# Altium footprint library 1N5819HW-7-F.PcbLib: 3 footprints
Each footprint in its own frame and in the unit in brackets; x right, y up, seen from the top. Pads: shape width x height; smd on the part's side, far side on the other; paste and mask are expansions set on the pad; w line width, h text height; cw(c..) or ccw(c..) is an arc to the next point about the centre after c.
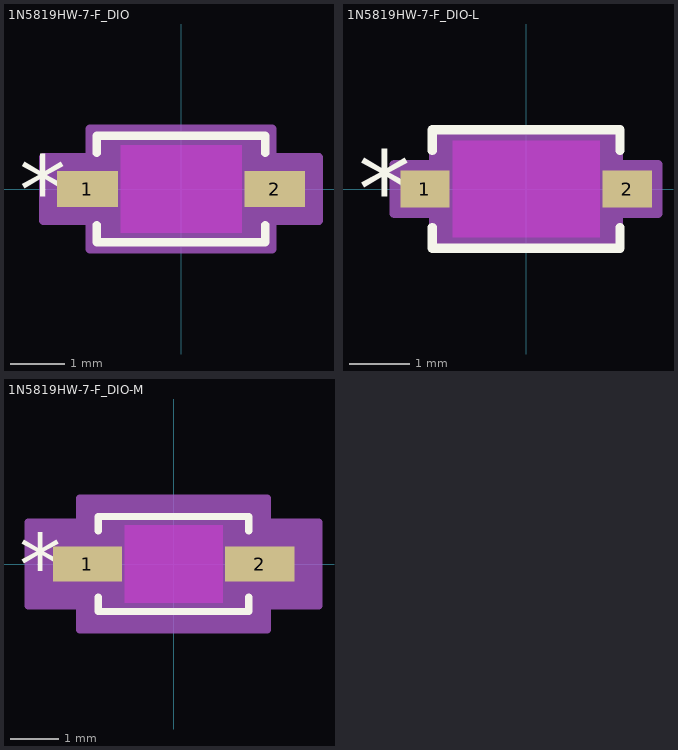
[diagram p0: the footprints below, top view; thin cyan lines are the x and y axes]

## 1N5819HW-7-F_DIO [mil]
pads (2):
  rect 44x26 smd paste+0 mask+0: 1(-67.79,0) 2(67.79,0)
Top Overlay:
  lines w6: -61,-26.1 -61,-38.5 61,-38.5 61,-26.1 ; -61,26.1 -61,38.5 61,38.5 61,26.1
  text "*" at -117.29,-25 h50
Keep-Out Layer:
  region: -43.79,-31.5 -43.79,31.5 43.79,31.5 43.79,-31.5
Mechanical 13:
  lines w1: -56,-16.75 -39.25,-33.5 ; -56,16.75 -39.25,33.5 ; -75.79,-12 -75.79,12 -56,12 -56,-12 -75.79,-12 ; -56,-33.5 56,-33.5 56,33.5 -56,33.5 -56,-33.5 ; 56,-12 56,12 75.79,12 75.79,-12 56,-12
  text "*" at -58.5,-25 h50
Mechanical 15:
  region: -66,-23 -99.79,-23 -99.79,23 -66,23 -66,43.5 66,43.5 66,23 99.79,23 99.79,-23 66,-23 66,-43.5 -66,-43.5
  lines w6: -99.79,-23 -99.79,23 -66,23 -66,43.5 66,43.5 66,23 99.79,23 99.79,-23 66,-23 66,-43.5 -66,-43.5 -66,-23 -99.79,-23
3D body "1N5819HW-7-F_DIO.step": height 53.11, standoff 0, extent -75.79,-33.5 75.79,33.5

## 1N5819HW-7-F_DIO-L [mil]
pads (2):
  rect 32x24 smd paste+0 mask+0: 1(-65.79,0) 2(65.79,0)
Top Overlay:
  lines w6: -61,-25.1 -61,-38.5 61,-38.5 61,-25.1 ; -61,25.1 -61,38.5 61,38.5 61,25.1
  text "*" at -109.29,-25 h50
Keep-Out Layer:
  region: -47.79,-31.5 -47.79,31.5 47.79,31.5 47.79,-31.5
Mechanical 13:
  lines w1: -56,-16.75 -39.25,-33.5 ; -56,16.75 -39.25,33.5 ; -75.79,-12 -75.79,12 -56,12 -56,-12 -75.79,-12 ; -56,-33.5 56,-33.5 56,33.5 -56,33.5 -56,-33.5 ; 56,-12 56,12 75.79,12 75.79,-12 56,-12
  text "*" at -58.5,-25 h50
Mechanical 15:
  region: -60,-16 -85.79,-16 -85.79,16 -60,16 -60,37.5 60,37.5 60,16 85.79,16 85.79,-16 60,-16 60,-37.5 -60,-37.5
  lines w6: -85.79,-16 -85.79,16 -60,16 -60,37.5 60,37.5 60,16 85.79,16 85.79,-16 60,-16 60,-37.5 -60,-37.5 -60,-16 -85.79,-16
3D body "1N5819HW-7-F_DIO.step": height 53.11, standoff 0, extent -75.79,-33.5 75.79,33.5

## 1N5819HW-7-F_DIO-M [mil]
pads (2):
  rect 56x28 smd paste+0 mask+0: 1(-69.79,0) 2(69.79,0)
Top Overlay:
  lines w6: -61,-27.1 -61,-38.5 61,-38.5 61,-27.1 ; -61,27.1 -61,38.5 61,38.5 61,27.1
  text "*" at -125.29,-25 h50
Keep-Out Layer:
  region: -39.79,-31.5 -39.79,31.5 39.79,31.5 39.79,-31.5
Mechanical 13:
  lines w1: -56,-16.75 -39.25,-33.5 ; -56,16.75 -39.25,33.5 ; -75.79,-12 -75.79,12 -56,12 -56,-12 -75.79,-12 ; -56,-33.5 56,-33.5 56,33.5 -56,33.5 -56,-33.5 ; 56,-12 56,12 75.79,12 75.79,-12 56,-12
  text "*" at -58.5,-25 h50
Mechanical 15:
  region: -76,-34 -117.79,-34 -117.79,34 -76,34 -76,53.5 76,53.5 76,34 117.79,34 117.79,-34 76,-34 76,-53.5 -76,-53.5
  lines w6: -117.79,-34 -117.79,34 -76,34 -76,53.5 76,53.5 76,34 117.79,34 117.79,-34 76,-34 76,-53.5 -76,-53.5 -76,-34 -117.79,-34
3D body "1N5819HW-7-F_DIO.step": height 53.11, standoff 0, extent -75.79,-33.5 75.79,33.5